# Altium schematic symbol library Analog Device ADC Lib.SchLib: 2 symbols
Pins are listed as number, name and electrical type; pins without a type are passive.

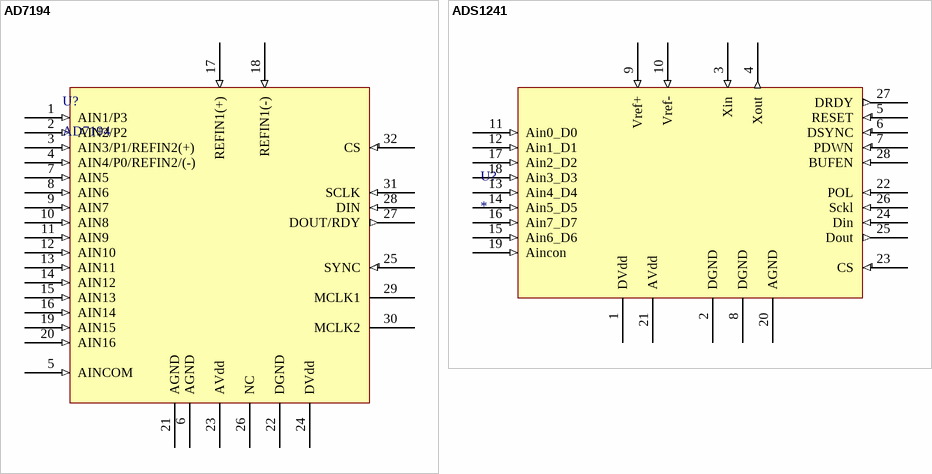
[diagram p0: symbols AD7194 to ADS1241]

## AD7194
designator U?
pins: 1 AIN1/P3 (in), 2 AIN2/P2 (in), 3 AIN3/P1/REFIN2(+) (in), 4 AIN4/P0/REFIN2/(-) (in), 5 AINCOM (in), 6 AGND (power), 7 AIN5 (in), 8 AIN6 (in), 9 AIN7 (in), 10 AIN8 (in), 11 AIN9 (in), 12 AIN10 (in), 13 AIN11 (in), 14 AIN12 (in), 15 AIN13 (in), 16 AIN14 (in), 17 REFIN1(+) (in), 18 REFIN1(-) (in), 19 AIN15 (in), 20 AIN16 (in), 21 AGND (power), 22 DGND (power), 23 AVdd (power), 24 DVdd (power), 25 SYNC (in), 26 NC, 27 DOUT/RDY (out), 28 DIN (in), 29 MCLK1, 30 MCLK2, 31 SCLK (in), 32 CS (in)

## ADS1241
designator U?
footprint SOP65P780-28BL (SOP, 28-Leads, Body 10.2x5.3mm, Pitch 0.65mm, IPC High Density)
pins: 1 DVdd (power), 2 DGND (power), 3 Xin (in), 4 Xout (out), 5 RESET (in), 6 DSYNC (in), 7 PDWN (in), 8 DGND (power), 9 Vref+ (in), 10 Vref- (in), 11 Ain0_D0 (in), 12 Ain1_D1 (in), 13 Ain4_D4 (in), 14 Ain5_D5 (in), 15 Ain6_D6 (in), 16 Ain7_D7 (in), 17 Ain2_D2 (in), 18 Ain3_D3 (in), 19 Aincon (in), 20 AGND, 21 AVdd (power), 22 POL (in), 23 CS (in), 24 Din (in), 25 Dout (out), 26 Sckl (in), 27 DRDY (out), 28 BUFEN (in)